# Altium footprint library btn_r200.PcbLib: 3 footprints
Each footprint in its own frame and in the unit in brackets; x right, y up, seen from the top. Pads: shape width x height; smd on the part's side, far side on the other; paste and mask are expansions set on the pad; w line width, h text height; cw(c..) or ccw(c..) is an arc to the next point about the centre after c.
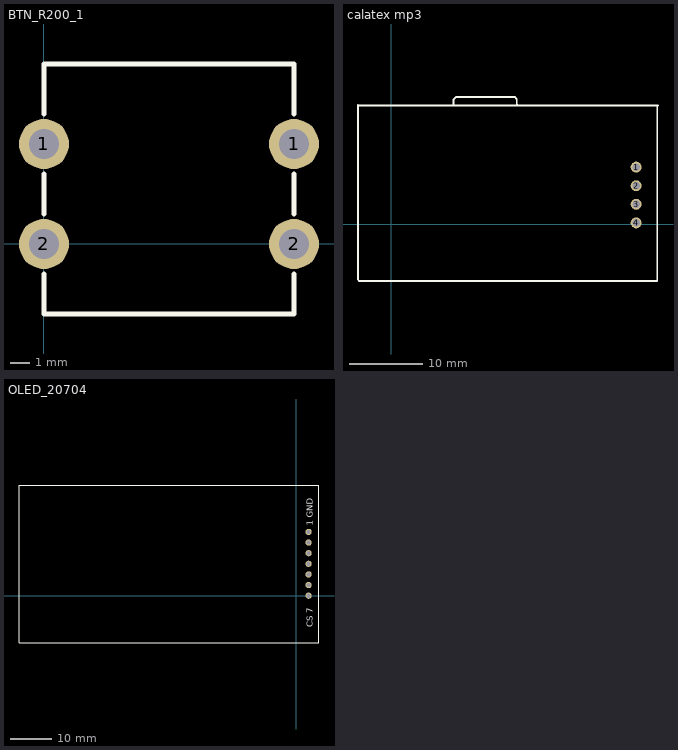
[diagram p0: the footprints below, top view; thin cyan lines are the x and y axes]

## BTN_R200_1 [mm]
pads (4):
  round 2.5 hole 1.5: 1(0,5) 1(12.5,5) 2(0,0) 2(12.5,0)
Top Overlay:
  lines w0.254: 0,-1.5 0,-3.5 12.5,-3.5 12.5,-1.5 ; 0,1.5 0,3.5 ; 0,6.5 0,9 12.5,9 12.5,6.5 ; 12.5,1.5 12.5,3.5
3D body "btn.STEP": height 12.31, standoff 0.01, extent -0.3,-3.9 12.7,9.1

## calatex mp3 [mm]
pads (4):
  round 1.5 hole 1: 1(33.6,7.85) 2(33.6,5.3) 3(33.6,2.75) 4(33.6,0.2)
Top Overlay:
  lines w0.254: -4.6,16.4 -4.6,-7.6 -4.4,-7.8 36.5,-7.8 36.5,16.2 ; -4.5,16.3 36.6,16.3 ; 8.5,16.4 8.5,17.1 8.9,17.5 16.9,17.5 17.2,17.2 17.2,16.5 17.3,16.4
3D body "serial mp3.STEP": height 18, standoff 3.3, extent -7.8,-8.2 37.2,15.8

## OLED_20704 [mm]
pads (7):
  round 1.5 hole 1: 1(3,15.3) 2(3,12.75) 3(3,10.2) 4(3,7.65) 5(3,5.1) 6(3,2.55) 7(3,0)
Top Overlay:
  lines w0.254: -66.5,-11.3 5.5,-11.3 5.5,26.5 -66.5,26.5 -66.5,-11.3
  text "CS 7" at 3.975,-7.575 h1.52
  text "1 GND" at 3.95,16.8 h1.52
3D body "screen.STEP": height 15, standoff 2.7, extent -66.7,-13.9 5.3,29.1